# Altium integrated library 51Integrated_Library.IntLib: 14 symbols
Pins are listed as number, name and electrical type; pins without a type are passive.

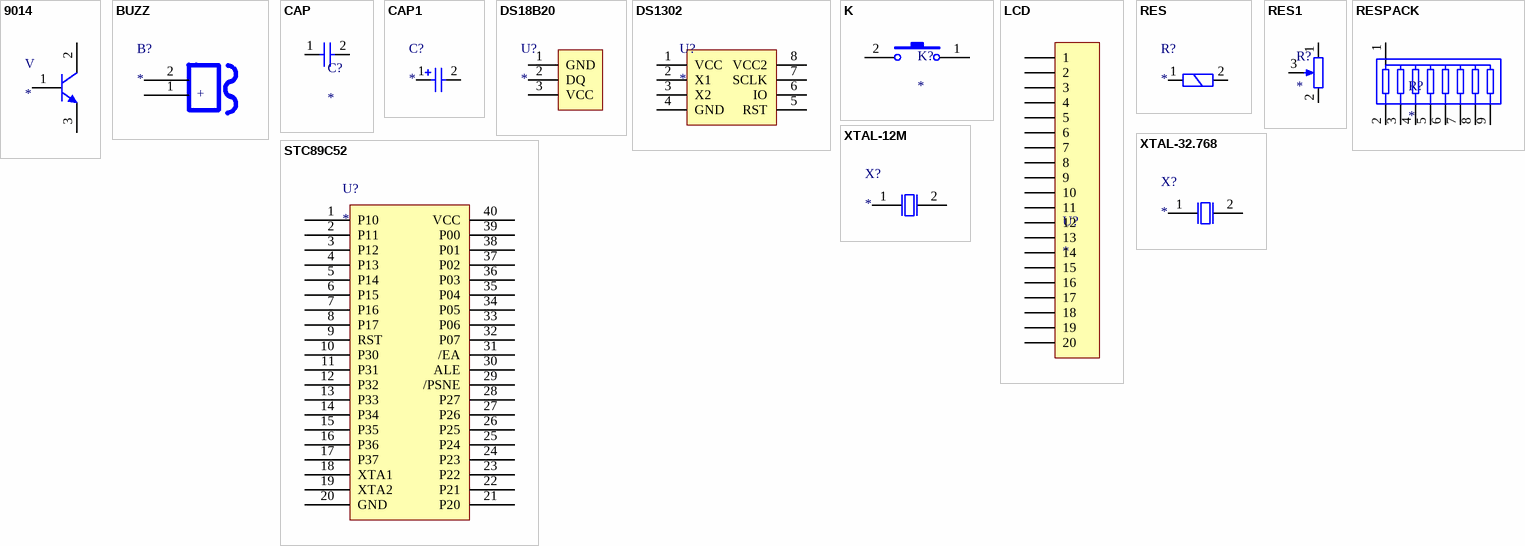
[diagram p0: symbols 9014 to XTAL-32.768]

## 9014
designator V
footprint TO-92
pins: 1 B, 2 C, 3 E

## BUZZ
designator B?
footprint BUZZ
pins: 1, 2
text: +

## CAP
designator C?
footprint CAP
pins: 1, 2

## CAP1
designator C?
footprint CAP1
pins: 1, 2

## DS18B20
designator U?
footprint TO-92
pins: 1 GND, 2 DQ, 3 VCC

## DS1302
designator U?
footprint DS1302
pins: 1 VCC, 2 X1, 3 X2, 4 GND, 5 RST, 6 IO, 7 SCLK, 8 VCC2

## K
designator K?
footprint K
pins: 1, 2

## LCD
designator U?
footprint LCD
pins: 1, 2, 3, 4, 5, 6, 7, 8, 9, 10, 11, 12, 13, 14, 15, 16, 17, 18, 19, 20

## RES
designator R?
footprint RES
pins: 1, 2

## RES1
designator R?
footprint RES1
pins: 1, 2, 3

## RESPACK
designator R?
footprint RESPACK
pins: 1, 2, 3, 4, 5, 6, 7, 8, 9

## STC89C52
designator U?
footprint STC89C52
pins: 1 P10, 2 P11, 3 P12, 4 P13, 5 P14, 6 P15, 7 P16, 8 P17, 9 RST, 10 P30, 11 P31, 12 P32, 13 P33, 14 P34, 15 P35, 16 P36, 17 P37, 18 XTA1, 19 XTA2, 20 GND, 21 P20, 22 P21, 23 P22, 24 P23, 25 P24, 26 P25, 27 P26, 28 P27, 29 /PSNE, 30 ALE, 31 /EA, 32 P07, 33 P06, 34 P05, 35 P04, 36 P03, 37 P02, 38 P01, 39 P00, 40 VCC

## XTAL-12M
designator X?
footprint XTAL-12M
pins: 1, 2

## XTAL-32.768
designator X?
footprint XTAL-32.768
pins: 1, 2